# Altium footprint library 39uF Buck.PcbLib: 1 footprints
Each footprint in its own frame and in the unit in brackets; x right, y up, seen from the top. Pads: shape width x height; smd on the part's side, far side on the other; paste and mask are expansions set on the pad; w line width, h text height; cw(c..) or ccw(c..) is an arc to the next point about the centre after c.
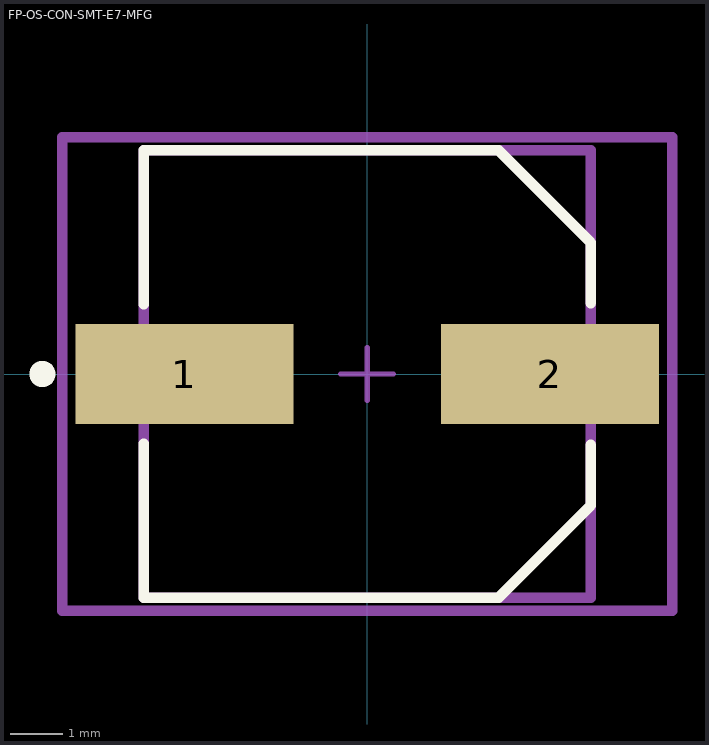
[diagram p0: the footprint, top view; thin cyan lines are the x and y axes]

## FP-OS-CON-SMT-E7-MFG [mm]
pads (2):
  rect 4.15x1.9 smd paste+0 mask+0: 1(-3.475,0) 2(3.475,0)
Top Overlay:
  circle w0.25: c-6.175,0 r0.125
  lines w0.2: -4.25,-1.325 -4.25,-4.25 2.5,-4.25 4.25,-2.5 4.25,-1.35 ; -4.25,1.325 -4.25,4.25 2.5,4.25 4.25,2.5 4.25,1.35
Top Assembly:
  lines w0.2: -5.8,-4.5 -5.8,4.5 5.8,4.5 5.8,-4.5 -5.8,-4.5
  text ".Designator" at 0,0.188 h1
Top 3D Body:
  lines w0.2: -4.25,-4.25 -4.25,4.25 4.25,4.25 4.25,-4.25 -4.25,-4.25
Top Courtyard:
  lines w0.2: -5.8,-4.5 -5.8,4.5 5.8,4.5 5.8,-4.5 -5.8,-4.5
Top Component Center:
  lines w0.1: -0.5,0 0.5,0 ; 0,-0.5 0,0.5
3D body "Cap_Panasonic_16SVQP82M_eec.STEP": height 0.25, standoff 0, extent -5.8,-4.5 5.8,4.5